# EAGLE library part EA_OLEDM204 (library ea_v66)
ELECTRONIC ASSEMBLY EA OLEDM204-LGA EA OLEDM204-LWA EA OLEDM204-GGA
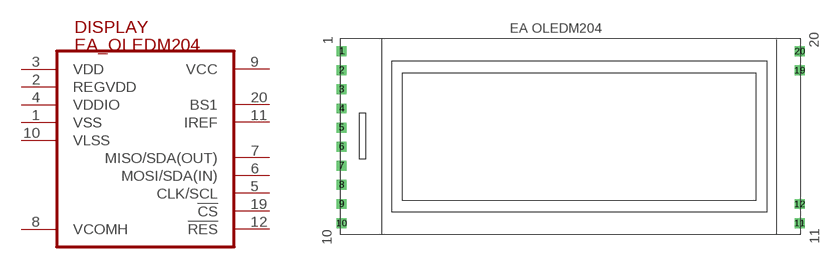
[diagram p20: symbol with the pads of EA_OLEDM204; footprint EA_OLEDM204]

Designator prefix DISPLAY

## EA_OLEDM204  [EA_OLEDM204]
1  VSS  pwr
2  REGVDD  pwr
3  VDD  pwr
4  VDDIO  pwr
5  CLK/SCL  in
6  MOSI/SDA(IN)  in
7  MISO/SDA(OUT)  out
8  VCOMH  pas
9  VCC  pwr
10  VLSS  pwr
11  IREF  pas
12  !RES!  in
19  !CS!  in
20  BS1  in

## Footprint EA_OLEDM204 (pad centres in mm)
drill 0.813 square: 1 0,22.86; 2 0,20.32; 3 0,17.78; 4 0,15.24; 5 0,12.7; 6 0,10.16; 7 0,7.62; 8 0,5.08; 9 0,2.54; 10 0,0; 11 60.96,0; 12 60.96,2.54; 19 60.96,20.32; 20 60.96,22.86